# Altium footprint library TRANS_ETD_34.PcbLib: 1 footprints
Each footprint in its own frame and in the unit in brackets; x right, y up, seen from the top. Pads: shape width x height; smd on the part's side, far side on the other; paste and mask are expansions set on the pad; w line width, h text height; cw(c..) or ccw(c..) is an arc to the next point about the centre after c.
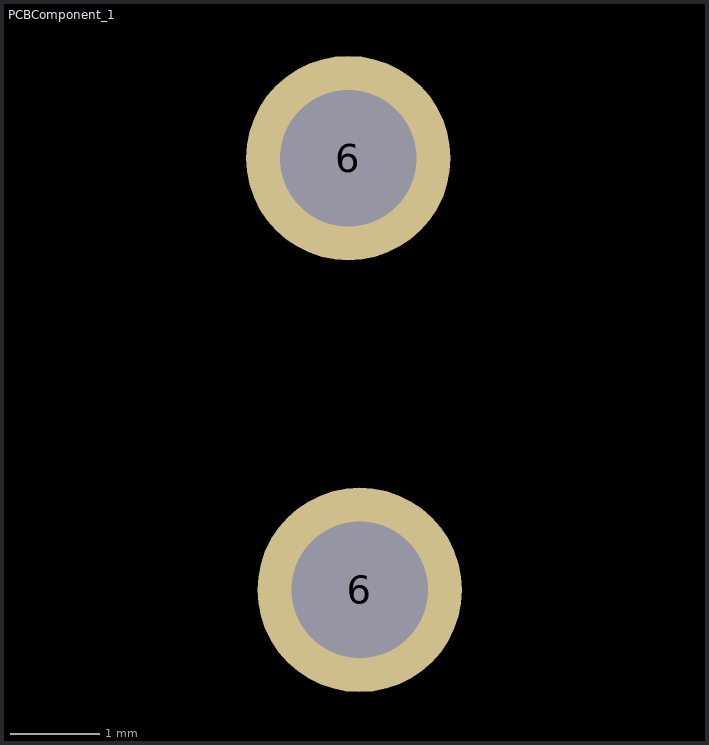
[diagram p0: the footprint, top view; thin cyan lines are the x and y axes]

## PCBComponent_1 [mil]
pads (2):
  round 90 hole 60: 6(-500,610) 6(-495,420)
3D body "ETD34.STEP": height 1558.18, standoff 132.98, extent -791.58,-787.4 791.58,787.4